# Altium schematic symbol library LT1761-BYP.SchLib: 1 symbol
Pins are listed as number, name and electrical type; pins without a type are passive.

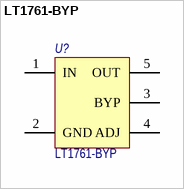
[diagram p0: symbol LT1761-BYP]

## LT1761-BYP
designator U?
100mA Low Noise LDO Micropower Regulator; Потребление: 0.1; Назначение: 100mA Low Noise LDO Micropower Regulator; Наименование: LT1761-BYP
footprint SOT23-5 (Footprint not found)
pins: 1 IN, 2 GND, 3 BYP, 4 ADJ, 5 OUT